# Altium footprint library MCU.PcbLib: 10 footprints
Each footprint in its own frame and in the unit in brackets; x right, y up, seen from the top. Pads: shape width x height; smd on the part's side, far side on the other; paste and mask are expansions set on the pad; w line width, h text height; cw(c..) or ccw(c..) is an arc to the next point about the centre after c.
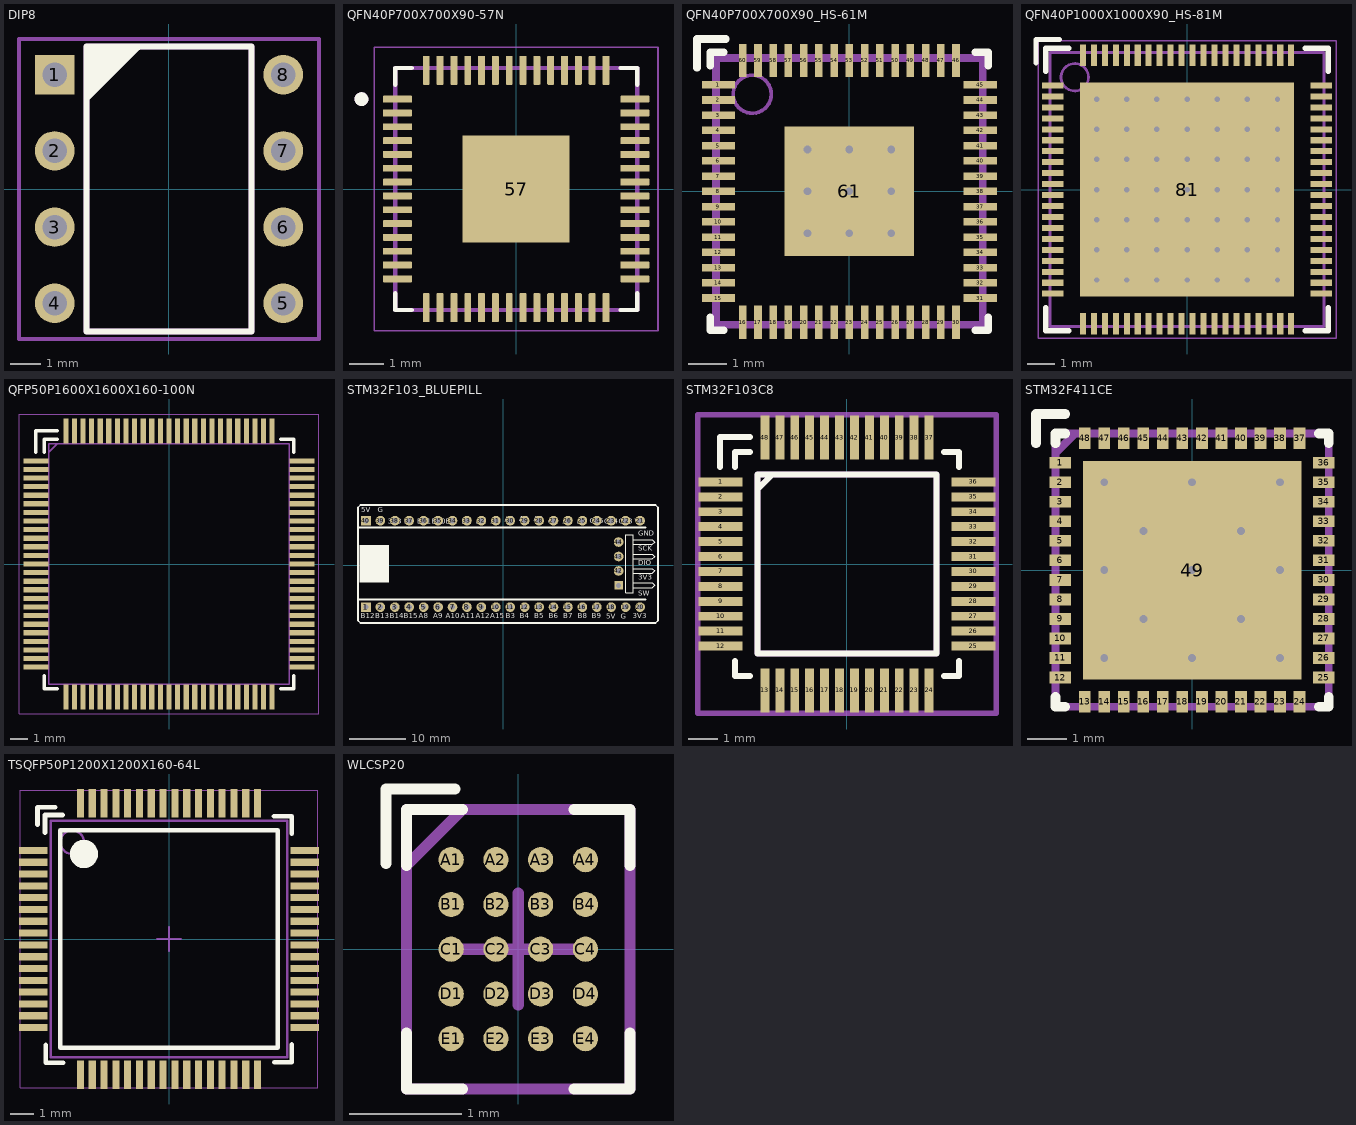
[diagram p0: the footprints below, top view; thin cyan lines are the x and y axes]

## DIP8 [mil]
pads (8):
  rect 52x52 hole 32: 1(-150,150)
  round 52 hole 32: 2(-150,50) 3(-150,-50) 4(-150,-150) 5(150,-150) 6(150,-50) 7(150,50) 8(150,150)
Top Overlay:
  lines w7.87: -108.27,118.11 -39.37,187.01 -108.27,127.95 -49.21,187.01 -108.27,137.8 -59.06,187.01 -108.27,147.64 -68.9,187.01 -108.27,157.48 ; -102.92,183.72 -107.71,173.83 -95.73,183.12 -106.52,166.64 -89.74,181.92 -108.27,157.48 ; -88.58,187.01 -108.27,167.32 -78.74,187.01 -108.27,157.48 ; -108.27,-187.01 -108.27,187.01 108.27,187.01 108.27,-187.01 -108.27,-187.01
Top Designator:
  text ".Designator" at -299.9,-19.99 h60
Mechanical 13:
  lines w7.87: -108.27,-187.01 -108.27,187.01 108.27,187.01 108.27,-187.01 -108.27,-187.01
Mechanical 15:
  lines w5: -196.85,-196.85 -196.85,196.85 196.85,196.85 196.85,-196.85 -196.85,-196.85
3D body "step_temp.STEP": height 215.61, standoff -144.39, extent -155,-182.5 155,182.5

## QFN40P700X700X90-57N [mm]
pads (57):
  rrect25% 0.84x0.2 smd mask+0.03: 1(-3.435,2.6) 2(-3.435,2.2) 3(-3.435,1.8) 4(-3.435,1.4) 5(-3.435,1) 6(-3.435,0.6) 7(-3.435,0.2) 8(-3.435,-0.2) 9(-3.435,-0.6) 10(-3.435,-1) 11(-3.435,-1.4) 12(-3.435,-1.8) 13(-3.435,-2.2) 14(-3.435,-2.6) 29(3.435,-2.6) 30(3.435,-2.2) 31(3.435,-1.8) 32(3.435,-1.4) 33(3.435,-1) 34(3.435,-0.6) 35(3.435,-0.2) 36(3.435,0.2) 37(3.435,0.6) 38(3.435,1) 39(3.435,1.4) 40(3.435,1.8) 41(3.435,2.2) 42(3.435,2.6)
  rrect25% 0.2x0.84 smd mask+0.03: 15(-2.6,-3.435) 16(-2.2,-3.435) 17(-1.8,-3.435) 18(-1.4,-3.435) 19(-1,-3.435) 20(-0.6,-3.435) 21(-0.2,-3.435) 22(0.2,-3.435) 23(0.6,-3.435) 24(1,-3.435) 25(1.4,-3.435) 26(1.8,-3.435) 27(2.2,-3.435) 28(2.6,-3.435) 43(2.6,3.435) 44(2.2,3.435) 45(1.8,3.435) 46(1.4,3.435) 47(1,3.435) 48(0.6,3.435) 49(0.2,3.435) 50(-0.2,3.435) 51(-0.6,3.435) 52(-1,3.435) 53(-1.4,3.435) 54(-1.8,3.435) 55(-2.2,3.435) 56(-2.6,3.435)
  rect 3.1x3.1 smd paste-0.57 mask+0.1: 57(0,0)
Top Overlay:
  circle w0.2: c-4.475,2.6 r0.1
  lines w0.127: -3.5,-3.02 -3.5,-3.5 -3.02,-3.5 ; -3.5,3.02 -3.5,3.5 -3.02,3.5 ; 3.02,-3.5 3.5,-3.5 3.5,-3.02 ; 3.02,3.5 3.5,3.5 3.5,3.02
Top Designator:
  text ".Designator" at -7.89,-0.508 h1.52
Mechanical 13:
  circle w0.2: c-4.475,2.6 r0.1
  lines w0.127: -3.5,-3.5 -3.5,3.5 3.5,3.5 3.5,-3.5 -3.5,-3.5
Mechanical 15:
  lines w0.05: -4.105,-4.105 -4.105,4.105 4.105,4.105 4.105,-4.105 -4.105,-4.105
3D body "step_temp.STEP": height 0.9, standoff 0, extent -3.5,-3.5 3.5,3.5

## QFN40P700X700X90_HS-61M [mm] "QFN, 60-Leads, Body 7.00x7.00mm, Pitch 0.40mm, Thermal Pad 3.40x3.40mm, IPC Low Density"
height 0.9
pads (61):
  rect 0.875x0.2 smd mask+0.05: 1(-3.437,2.8) 2(-3.437,2.4) 3(-3.437,2) 4(-3.437,1.6) 5(-3.437,1.2) 6(-3.437,0.8) 7(-3.437,0.4) 8(-3.437,0) 9(-3.437,-0.4) 10(-3.437,-0.8) 11(-3.437,-1.2) 12(-3.437,-1.6) 13(-3.437,-2) 14(-3.437,-2.4) 15(-3.437,-2.8) 31(3.438,-2.8) 32(3.438,-2.4) 33(3.438,-2) 34(3.438,-1.6) 35(3.438,-1.2) 36(3.438,-0.8) 37(3.438,-0.4) 38(3.438,0) 39(3.438,0.4) 40(3.438,0.8) 41(3.438,1.2) 42(3.438,1.6) 43(3.438,2) 44(3.438,2.4) 45(3.438,2.8)
  rect 0.2x0.875 smd mask+0.05: 16(-2.8,-3.438) 17(-2.4,-3.438) 18(-2,-3.438) 19(-1.6,-3.438) 20(-1.2,-3.438) 21(-0.8,-3.438) 22(-0.4,-3.438) 23(0,-3.438) 24(0.4,-3.438) 25(0.8,-3.438) 26(1.2,-3.438) 27(1.6,-3.438) 28(2,-3.438) 29(2.4,-3.438) 30(2.8,-3.438) 46(2.8,3.437) 47(2.4,3.437) 48(2,3.437) 49(1.6,3.437) 50(1.2,3.437) 51(0.8,3.437) 52(0.4,3.437) 53(0,3.437) 54(-0.4,3.437) 55(-0.8,3.437) 56(-1.2,3.437) 57(-1.6,3.437) 58(-2,3.437) 59(-2.4,3.437) 60(-2.8,3.437)
  rect 3.4x3.4 smd mask+0.05: 61(0,0)
via -1.1,1.1 diameter 0.5 hole 0.2
via 0,1.1 diameter 0.5 hole 0.2
via 1.1,1.1 diameter 0.5 hole 0.2
via -1.1,0 diameter 0.5 hole 0.2
via 0,0 diameter 0.5 hole 0.2
via 1.1,0 diameter 0.5 hole 0.2
via -1.1,-1.1 diameter 0.5 hole 0.2
via 0,-1.1 diameter 0.5 hole 0.2
via 1.1,-1.1 diameter 0.5 hole 0.2
Top Overlay:
  lines w0.2: -4,3.25 -4,4 -3.25,4 ; -3.65,-3.3 -3.65,-3.65 -3.3,-3.65 ; -3.65,3.3 -3.65,3.65 -3.3,3.65 ; 3.3,-3.65 3.65,-3.65 3.65,-3.3 ; 3.3,3.65 3.65,3.65 3.65,3.3
Top Designator:
  text ".Designator" at -7.705,-0.42 h1.52
Mechanical 13:
  circle w0.1: c-2.55,2.55 r0.5
  lines w0.2: -3.5,-3.5 -3.5,3.5 3.5,3.5 3.5,-3.5 -3.5,-3.5
Mechanical 15:
  lines w0.1: -0.5,0 0.5,0 ; 0,-0.5 0,0.5
  lines w0.2: -3.5,-3.5 -3.5,3.5 3.5,3.5 3.5,-3.5 -3.5,-3.5
3D body "QFN40P700X700X90_HS-61M.step": height 0.9, standoff 0, extent -3.501,-3.501 3.501,3.501

## QFN40P1000X1000X90_HS-81M [mm] "QFN, 80-Leads, Body 10.00x10.00mm, Pitch 0.40mm, Thermal Pad 7.82x7.82mm, IPC Low Density"
height 0.9
pads (81):
  rect 0.78x0.22 smd mask+0.03: 1(-4.897,3.8) 2(-4.897,3.4) 3(-4.897,3) 4(-4.897,2.6) 5(-4.897,2.2) 6(-4.897,1.8) 7(-4.897,1.4) 8(-4.897,1) 9(-4.897,0.6) 10(-4.897,0.2) 11(-4.897,-0.2) 12(-4.897,-0.6) 13(-4.897,-1) 14(-4.897,-1.4) 15(-4.897,-1.8) 16(-4.897,-2.2) 17(-4.897,-2.6) 18(-4.897,-3) 19(-4.897,-3.4) 20(-4.897,-3.8) 41(4.897,-3.8) 42(4.897,-3.4) 43(4.897,-3) 44(4.897,-2.6) 45(4.897,-2.2) 46(4.897,-1.8) 47(4.897,-1.4) 48(4.897,-1) 49(4.897,-0.6) 50(4.897,-0.2) 51(4.897,0.2) 52(4.897,0.6) 53(4.897,1) 54(4.897,1.4) 55(4.897,1.8) 56(4.897,2.2) 57(4.897,2.6) 58(4.897,3) 59(4.897,3.4) 60(4.897,3.8)
  rect 0.22x0.78 smd mask+0.03: 21(-3.8,-4.897) 22(-3.4,-4.897) 23(-3,-4.897) 24(-2.6,-4.897) 25(-2.2,-4.897) 26(-1.8,-4.897) 27(-1.4,-4.897) 28(-1,-4.897) 29(-0.6,-4.897) 30(-0.2,-4.897) 31(0.2,-4.897) 32(0.6,-4.897) 33(1,-4.897) 34(1.4,-4.897) 35(1.8,-4.897) 36(2.2,-4.897) 37(2.6,-4.897) 38(3,-4.897) 39(3.4,-4.897) 40(3.8,-4.897) 61(3.8,4.897) 62(3.4,4.897) 63(3,4.897) 64(2.6,4.897) 65(2.2,4.897) 66(1.8,4.897) 67(1.4,4.897) 68(1,4.897) 69(0.6,4.897) 70(0.2,4.897) 71(-0.2,4.897) 72(-0.6,4.897) 73(-1,4.897) 74(-1.4,4.897) 75(-1.8,4.897) 76(-2.2,4.897) 77(-2.6,4.897) 78(-3,4.897) 79(-3.4,4.897) 80(-3.8,4.897)
  rect 7.82x7.82 smd mask+0.03: 81(0,0)
via 3.3,-3.3 diameter 0.5 hole 0.2
via 2.2,-3.3 diameter 0.5 hole 0.2
via 1.1,-3.3 diameter 0.5 hole 0.2
via 0,-3.3 diameter 0.5 hole 0.2
via -1.1,-3.3 diameter 0.5 hole 0.2
via -2.2,-3.3 diameter 0.5 hole 0.2
via -3.3,-3.3 diameter 0.5 hole 0.2
via 3.3,-2.2 diameter 0.5 hole 0.2
via 2.2,-2.2 diameter 0.5 hole 0.2
via 1.1,-2.2 diameter 0.5 hole 0.2
via 0,-2.2 diameter 0.5 hole 0.2
via -1.1,-2.2 diameter 0.5 hole 0.2
via -2.2,-2.2 diameter 0.5 hole 0.2
via -3.3,-2.2 diameter 0.5 hole 0.2
via 3.3,-1.1 diameter 0.5 hole 0.2
via 2.2,-1.1 diameter 0.5 hole 0.2
via 1.1,-1.1 diameter 0.5 hole 0.2
via 0,-1.1 diameter 0.5 hole 0.2
via -1.1,-1.1 diameter 0.5 hole 0.2
via -2.2,-1.1 diameter 0.5 hole 0.2
via -3.3,-1.1 diameter 0.5 hole 0.2
via 3.3,0 diameter 0.5 hole 0.2
via 2.2,0 diameter 0.5 hole 0.2
via 1.1,0 diameter 0.5 hole 0.2
via 0,0 diameter 0.5 hole 0.2
via -1.1,0 diameter 0.5 hole 0.2
via -2.2,0 diameter 0.5 hole 0.2
via -3.3,0 diameter 0.5 hole 0.2
via 3.3,1.1 diameter 0.5 hole 0.2
via 2.2,1.1 diameter 0.5 hole 0.2
via 1.1,1.1 diameter 0.5 hole 0.2
via 0,1.1 diameter 0.5 hole 0.2
via -1.1,1.1 diameter 0.5 hole 0.2
via -2.2,1.1 diameter 0.5 hole 0.2
via -3.3,1.1 diameter 0.5 hole 0.2
via 3.3,2.2 diameter 0.5 hole 0.2
via 2.2,2.2 diameter 0.5 hole 0.2
via 1.1,2.2 diameter 0.5 hole 0.2
via 0,2.2 diameter 0.5 hole 0.2
via -1.1,2.2 diameter 0.5 hole 0.2
via -2.2,2.2 diameter 0.5 hole 0.2
via -3.3,2.2 diameter 0.5 hole 0.2
via 3.3,3.3 diameter 0.5 hole 0.2
via 2.2,3.3 diameter 0.5 hole 0.2
via 1.1,3.3 diameter 0.5 hole 0.2
via 0,3.3 diameter 0.5 hole 0.2
via -1.1,3.3 diameter 0.5 hole 0.2
via -2.2,3.3 diameter 0.5 hole 0.2
via -3.3,3.3 diameter 0.5 hole 0.2
Top Overlay:
  lines w0.2: -5.514,4.637 -5.514,5.477 -4.674,5.477 ; -5.15,-4.31 -5.15,-5.15 -4.31,-5.15 ; -5.15,4.31 -5.15,5.15 -4.31,5.15 ; 4.31,-5.15 5.15,-5.15 5.15,-4.31 ; 4.31,5.15 5.15,5.15 5.15,4.31
Top Designator:
  text ".Designator" at -7.695,-0.449 h1.52
Mechanical 13:
  circle w0.1: c-4.1,4.1 r0.5
  lines w0.1: -5,-5 5,-5 5,5 -5,5 -5,-5
Mechanical 15:
  lines w0.05: -5.435,-5.435 5.435,-5.435 5.435,5.435 -5.435,5.435 -5.435,-5.435
  lines w0.1: -0.5,0 0.5,0 ; 0,-0.5 0,0.5
3D body "QFN40P1000X1000X90_HS-81M.step": height 0.9, standoff 0, extent -5.001,-5.001 5.001,5.001

## QFP50P1600X1600X160-100N [mm]
pads (100):
  rect 1.475x0.3 smd: 1(-7.738,6) 2(-7.738,5.5) 3(-7.738,5) 4(-7.738,4.5) 5(-7.738,4) 6(-7.738,3.5) 7(-7.738,3) 8(-7.738,2.5) 9(-7.738,2) 10(-7.738,1.5) 11(-7.738,1) 12(-7.738,0.5) 13(-7.738,0) 14(-7.738,-0.5) 15(-7.738,-1) 16(-7.738,-1.5) 17(-7.738,-2) 18(-7.738,-2.5) 19(-7.738,-3) 20(-7.738,-3.5) 21(-7.738,-4) 22(-7.738,-4.5) 23(-7.738,-5) 24(-7.738,-5.5) 25(-7.738,-6) 51(7.738,-6) 52(7.738,-5.5) 53(7.738,-5) 54(7.738,-4.5) 55(7.738,-4) 56(7.738,-3.5) 57(7.738,-3) 58(7.738,-2.5) 59(7.738,-2) 60(7.738,-1.5) 61(7.738,-1) 62(7.738,-0.5) 63(7.738,0) 64(7.738,0.5) 65(7.738,1) 66(7.738,1.5) 67(7.738,2) 68(7.738,2.5) 69(7.738,3) 70(7.738,3.5) 71(7.738,4) 72(7.738,4.5) 73(7.738,5) 74(7.738,5.5) 75(7.738,6)
  rect 0.3x1.475 smd: 26(-6,-7.738) 27(-5.5,-7.738) 28(-5,-7.738) 29(-4.5,-7.738) 30(-4,-7.738) 31(-3.5,-7.738) 32(-3,-7.738) 33(-2.5,-7.738) 34(-2,-7.738) 35(-1.5,-7.738) 36(-1,-7.738) 37(-0.5,-7.738) 38(0,-7.738) 39(0.5,-7.738) 40(1,-7.738) 41(1.5,-7.738) 42(2,-7.738) 43(2.5,-7.738) 44(3,-7.738) 45(3.5,-7.738) 46(4,-7.738) 47(4.5,-7.738) 48(5,-7.738) 49(5.5,-7.738) 50(6,-7.738) 76(6,7.738) 77(5.5,7.738) 78(5,7.738) 79(4.5,7.738) 80(4,7.738) 81(3.5,7.738) 82(3,7.738) 83(2.5,7.738) 84(2,7.738) 85(1.5,7.738) 86(1,7.738) 87(0.5,7.738) 88(0,7.738) 89(-0.5,7.738) 90(-1,7.738) 91(-1.5,7.738) 92(-2,7.738) 93(-2.5,7.738) 94(-3,7.738) 95(-3.5,7.738) 96(-4,7.738) 97(-4.5,7.738) 98(-5,7.738) 99(-5.5,7.738) 100(-6,7.738)
Top Overlay:
  lines w0.2: -7.75,6.5 -7.75,7.75 -6.5,7.75 ; -7.25,-6.5 -7.25,-7.25 -6.5,-7.25 ; -7.25,6.5 -7.25,7.25 -6.5,7.25 ; 6.5,-7.25 7.25,-7.25 7.25,-6.5 ; 6.5,7.25 7.25,7.25 7.25,6.5
Top Designator:
  text ".Designator" at -7.618,-0.508 h1.52
Mechanical 13:
  lines w0.1: -7,6.5 -6.5,7 ; -7,-7 7,-7 7,7 -7,7 -7,-7
Mechanical 15:
  lines w0.05: -8.725,-8.725 8.725,-8.725 8.725,8.725 -8.725,8.725 -8.725,-8.725
3D body "STM32F407VET6.stp": height 1.6, standoff 0, extent -8,-8 8,8

## STM32F103_BLUEPILL [mm]
pads (44):
  rect 1.7x1.7 hole 0.9: 1(-24.13,-7.357) 40(-24.13,7.857)
  round 1.7 hole 0.9: 2(-21.59,-7.357) 3(-19.05,-7.357) 4(-16.51,-7.357) 5(-13.97,-7.357) 6(-11.43,-7.357) 7(-8.89,-7.357) 8(-6.35,-7.357) 9(-3.81,-7.357) 10(-1.27,-7.357) 11(1.27,-7.357) 12(3.81,-7.357) 13(6.35,-7.357) 14(8.89,-7.357) 15(11.43,-7.357) 16(13.97,-7.357) 17(16.51,-7.357) 18(19.05,-7.357) 19(21.59,-7.357) 20(24.13,-7.357) 21(24.13,7.857) 22(21.59,7.857) 23(19.05,7.857) 24(16.51,7.857) 25(13.97,7.857) 26(11.43,7.857) 27(8.89,7.857) 28(6.35,7.857) 29(3.81,7.857) 30(1.27,7.857) 31(-1.27,7.857) 32(-3.81,7.857) 33(-6.35,7.857) 34(-8.89,7.857) 35(-11.43,7.857) 36(-13.97,7.857) 37(-16.51,7.857) 38(-19.05,7.857) 39(-21.59,7.857) 42(20.345,-0.982) 43(20.345,1.558) 44(20.345,4.098)
  rect 1.5x1.5 hole 0.9: 41(20.345,-3.522)
Top Overlay:
  rectangle: -25.273,-3.039 -20.066,3.59
  lines w0.2: 22.885,-3.945 26.272,-3.945 26.695,-3.522 26.272,-3.099 22.885,-3.099 ; 22.885,-1.405 26.272,-1.405 26.695,-0.982 26.272,-0.559 22.885,-0.559 ; 22.885,1.135 26.272,1.135 26.695,1.558 26.272,1.981 22.885,1.981 ; 22.885,3.675 26.272,3.675 26.695,4.098 26.272,4.521 22.885,4.521 ; 21.615,-4.792 21.615,5.368 22.885,5.368 22.885,-4.792 21.615,-4.792
  lines w0.3: -25.451,-6.024 25.121,-6.024 ; -25.451,6.676 25.146,6.676
  lines w0.305: -25.527,-9.72 -25.527,10.194 -25.094,10.627 26.846,10.627 27.28,10.194 27.28,-9.72 26.848,-10.151 -25.095,-10.151 -25.527,-9.72
  text "5V" at -24.93,9.013 h1.52
  text "A7" at -4.737,6.956 h1.52
  text "A3" at 5.423,7.387 h1.52
  text "G" at -22.085,9.013 h1.52
  text "B0" at -7.277,6.956 h1.52
  text "C14" at 17.818,6.956 h1.52
  text "A1" at 10.503,6.956 h1.52
  text "C13" at 20.333,6.956 h1.52
  text "A5" at 0.343,7.337 h1.52
  text "A2" at 7.963,7.184 h1.52
  text "3V3" at -20.256,6.956 h1.52
  text "A0" at 13.043,6.956 h1.52
  text "A4" at 2.883,7.438 h1.52
  text "B1" at -10.046,6.956 h1.52
  text "R" at -17.412,6.956 h1.52
  text "B11" at -15.126,6.956 h1.52
  text "A6" at -2.197,6.956 h1.52
  text "VB" at 23.203,6.956 h1.52
  text "B10" at -12.586,6.956 h1.52
  text "C15" at 15.278,7.057 h1.52
  text "DIO" at 23.774,-0.33 h1.52
  text "GND" at 23.774,4.86 h1.52
  text "SCK" at 23.774,2.202 h1.52
  text "3V3" at 23.774,-2.887 h1.52
  text "SW" at 23.774,-5.706 h1.52
  text "A8" at -14.821,-9.699 h1.52
  text "B7" at 10.579,-9.678 h1.52
  text "B13" at -22.517,-9.699 h1.52
  text "A10" at -10.096,-9.699 h1.52
  text "A11" at -7.429,-9.681 h1.52
  text "B9" at 15.659,-9.699 h1.52
  text "B14" at -19.977,-9.681 h1.52
  text "A12" at -4.839,-9.681 h1.52
  text "B12" at -25.057,-9.681 h1.52
  text "B6" at 8.039,-9.699 h1.52
  text "B4" at 2.959,-9.681 h1.52
  text "G" at 20.739,-9.713 h1.52
  text "A9" at -12.281,-9.699 h1.52
  text "B3" at 0.445,-9.699 h1.52
  text "3V3" at 22.847,-9.699 h1.52
  text "A15" at -2.248,-9.699 h1.52
  text "B5" at 5.499,-9.696 h1.52
  text "B8" at 13.119,-9.699 h1.52
  text "5V" at 18.199,-9.722 h1.52
  text "B15" at -17.437,-9.699 h1.52
Bottom Overlay:
  lines w0.2: -25.4,-9.694 -25.4,-6.087 -23.495,-6.087 25.4,-6.087 25.4,-10.024 ; -25.4,10.296 -25.4,6.587 25.4,6.587 25.4,10.524
Top Designator:
  text ".Designator" at -6.418,-0.238 h1.52
3D body "STM32F103C8T6_Blue_Pill v6.step": height 12.77, standoff -5.5, extent -27.58,-11.16 29.98,11.7

## STM32F103C8 [mm]
pads (48):
  rect 1.475x0.3 smd mask-2539.97: 1(-4.238,2.75) 2(-4.238,2.25) 3(-4.238,1.75) 4(-4.238,1.25) 5(-4.238,0.75) 6(-4.238,0.25) 7(-4.238,-0.25) 8(-4.238,-0.75) 9(-4.238,-1.25) 10(-4.238,-1.75) 11(-4.238,-2.25) 12(-4.238,-2.75) 25(4.238,-2.75) 26(4.238,-2.25) 27(4.238,-1.75) 28(4.238,-1.25) 29(4.238,-0.75) 30(4.238,-0.25) 31(4.238,0.25) 32(4.238,0.75) 33(4.238,1.25) 34(4.238,1.75) 35(4.238,2.25) 36(4.238,2.75)
  rect 0.3x1.475 smd mask-2539.97: 13(-2.75,-4.238) 14(-2.25,-4.238) 15(-1.75,-4.238) 16(-1.25,-4.238) 17(-0.75,-4.238) 18(-0.25,-4.238) 19(0.25,-4.238) 20(0.75,-4.238) 21(1.25,-4.238) 22(1.75,-4.238) 23(2.25,-4.238) 24(2.75,-4.238) 37(2.75,4.238) 38(2.25,4.238) 39(1.75,4.238) 40(1.25,4.238) 41(0.75,4.238) 42(0.25,4.238) 43(-0.25,4.238) 44(-0.75,4.238) 45(-1.25,4.238) 46(-1.75,4.238) 47(-2.25,4.238) 48(-2.75,4.238)
Top Overlay:
  lines w0.2: -4.25,3.25 -4.25,4.25 -3.25,4.25 ; -3.75,-3.25 -3.75,-3.75 -3.25,-3.75 ; -3.75,3.25 -3.75,3.5 -3.75,3.75 -3.25,3.75 ; -3,2.5 -2.5,3 ; 3.25,-3.75 3.75,-3.75 3.75,-3.25 ; 3.25,3.75 3.75,3.75 3.75,3.25 ; -3,-3 -3,3 3,3 3,-3 -3,-3
Top Solder:
  drawing of 48 lines, arcs and shapes, not listed
Top Designator:
  text ".Designator" at -7.618,-0.508 h1.52
Mechanical 13:
  lines w0.2: -3,2.5 -2.5,3 ; -3,-3 -3,3 3,3 3,-3 -3,-3
Mechanical 15:
  lines w0.2: -5,-5 -5,5 5,5 5,-5 -5,-5
3D body "STM32F103C8T6XXX.stp": height 1.6, standoff 0, extent -4.5,-4.5 4.5,4.5

## STM32F411CE [mm] "-40?~+85? 1.7V~3.6V 100MHz 128KB 12bit 32 Bit 36 512KB ARM Cortex-M4 Built-in FLASH UFQFPN-48(7x7) Microcontrollers (MCU/MPU/SOC) ROHS"
pads (49):
  rect 0.55x0.3 smd mask-2539.97: 1(-3.375,2.75) 2(-3.375,2.25) 3(-3.375,1.75) 4(-3.375,1.25) 5(-3.375,0.75) 6(-3.375,0.25) 7(-3.375,-0.25) 8(-3.375,-0.75) 9(-3.375,-1.25) 10(-3.375,-1.75) 11(-3.375,-2.25) 12(-3.375,-2.75) 25(3.375,-2.75) 26(3.375,-2.25) 27(3.375,-1.75) 28(3.375,-1.25) 29(3.375,-0.75) 30(3.375,-0.25) 31(3.375,0.25) 32(3.375,0.75) 33(3.375,1.25) 34(3.375,1.75) 35(3.375,2.25) 36(3.375,2.75)
  rect 0.3x0.55 smd mask-2539.97: 13(-2.75,-3.375) 14(-2.25,-3.375) 15(-1.75,-3.375) 16(-1.25,-3.375) 17(-0.75,-3.375) 18(-0.25,-3.375) 19(0.25,-3.375) 20(0.75,-3.375) 21(1.25,-3.375) 22(1.75,-3.375) 23(2.25,-3.375) 24(2.75,-3.375) 37(2.75,3.375) 38(2.25,3.375) 39(1.75,3.375) 40(1.25,3.375) 41(0.75,3.375) 42(0.25,3.375) 43(-0.25,3.375) 44(-0.75,3.375) 45(-1.25,3.375) 46(-1.75,3.375) 47(-2.25,3.375) 48(-2.75,3.375)
  rect 5.6x5.6 smd mask-2539.97: 49(0,0)
via 1.25,-1.25 diameter 0.5 hole 0.2
via -1.25,-1.25 diameter 0.5 hole 0.2
via -1.25,1 diameter 0.5 hole 0.2
via 1.25,1 diameter 0.5 hole 0.2
via 0,2.25 diameter 0.5 hole 0.2
via -2.25,0 diameter 0.5 hole 0.2
via 2.25,0 diameter 0.5 hole 0.2
via 0,-2.25 diameter 0.5 hole 0.2
via 2.25,-2.25 diameter 0.5 hole 0.2
via -2.25,-2.25 diameter 0.5 hole 0.2
via -2.25,2.25 diameter 0.5 hole 0.2
via 2.25,2.25 diameter 0.5 hole 0.2
via 0,0 diameter 0.5 hole 0.2
Top Overlay:
  lines w0.254: -4,3.25 -4,4 -3.25,4 ; -3.5,-3.25 -3.5,-3.5 -3.25,-3.5 ; -3.5,3.25 -3.5,3.5 -3.25,3.5 ; 3.25,-3.5 3.5,-3.5 3.5,-3.25 ; 3.25,3.5 3.5,3.5 3.5,3.25
Top Solder:
  drawing of 49 lines, arcs and shapes, not listed
Top Designator:
  text ".Designator" at -7.856,-0.269 h1.52
Mechanical 13:
  lines w0.2: -3.5,3 -3,3.5 ; -3.5,-3.5 -3.5,3.5 3.5,3.5 3.5,-3.5 -3.5,-3.5
Mechanical 15:
  lines w0.2: -3.5,-3.5 -3.5,3.5 3.5,3.5 3.5,-3.5 -3.5,-3.5
3D body "STM32F411CEU6.stp": height 0.6, standoff 0, extent -3.55,-3.55 3.55,3.55

## TSQFP50P1200X1200X160-64L [mm] "TSQFP, 64-Leads, Body 10.00x10.00mm, Pitch 0.50mm, IPC High Density"
height 1.6
pads (64):
  rect 1.2x0.3 smd mask+0.05: 1(-5.75,3.75) 2(-5.75,3.25) 3(-5.75,2.75) 4(-5.75,2.25) 5(-5.75,1.75) 6(-5.75,1.25) 7(-5.75,0.75) 8(-5.75,0.25) 9(-5.75,-0.25) 10(-5.75,-0.75) 11(-5.75,-1.25) 12(-5.75,-1.75) 13(-5.75,-2.25) 14(-5.75,-2.75) 15(-5.75,-3.25) 16(-5.75,-3.75) 33(5.75,-3.75) 34(5.75,-3.25) 35(5.75,-2.75) 36(5.75,-2.25) 37(5.75,-1.75) 38(5.75,-1.25) 39(5.75,-0.75) 40(5.75,-0.25) 41(5.75,0.25) 42(5.75,0.75) 43(5.75,1.25) 44(5.75,1.75) 45(5.75,2.25) 46(5.75,2.75) 47(5.75,3.25) 48(5.75,3.75)
  rect 0.3x1.2 smd mask+0.05: 17(-3.75,-5.75) 18(-3.25,-5.75) 19(-2.75,-5.75) 20(-2.25,-5.75) 21(-1.75,-5.75) 22(-1.25,-5.75) 23(-0.75,-5.75) 24(-0.25,-5.75) 25(0.25,-5.75) 26(0.75,-5.75) 27(1.25,-5.75) 28(1.75,-5.75) 29(2.25,-5.75) 30(2.75,-5.75) 31(3.25,-5.75) 32(3.75,-5.75) 49(3.75,5.75) 50(3.25,5.75) 51(2.75,5.75) 52(2.25,5.75) 53(1.75,5.75) 54(1.25,5.75) 55(0.75,5.75) 56(0.25,5.75) 57(-0.25,5.75) 58(-0.75,5.75) 59(-1.25,5.75) 60(-1.75,5.75) 61(-2.25,5.75) 62(-2.75,5.75) 63(-3.25,5.75) 64(-3.75,5.75)
Top Overlay:
  circle w0.6: c-3.6,3.6 r0.3
  lines w0.2: -5.564,4.833 -5.564,5.583 -4.814,5.583 ; -5.25,4.5 -5.25,5.25 -4.5,5.25 ; -5.222,-4.488 -5.222,-5.238 -4.472,-5.238 ; 4.441,5.202 5.191,5.202 5.191,4.452 ; 4.452,-5.212 5.202,-5.212 5.202,-4.462 ; -4.6,-4.6 4.6,-4.6 4.6,4.6 -4.6,4.6 -4.6,-4.6
Top Designator:
  text ".Designator" at -9.059,6.746 h0.76
Mechanical 13:
  circle w0.1: c-4.1,4.1 r0.5
  lines w0.1: -5,-5 5,-5 5,5 -5,5 -5,-5
Mechanical 15:
  lines w0.05: -6.3,-6.3 6.3,-6.3 6.3,6.3 -6.3,6.3 -6.3,-6.3
  lines w0.1: -0.5,0 0.5,0 ; 0,-0.5 0,0.5
3D body "TSQFP50P1200X1200X160-64L.step": height 1.6, standoff 0, extent -6,-6 6,6

## WLCSP20 [mm] "WLCSP20 is a 20-ball, 1.94 x 2.40 mm, 0.4 mm pitch, wafer-level chip-scale package."
pads (20):
  round 0.225 smd mask-2539.97: A1(-0.6,0.8) A2(-0.2,0.8) A3(0.2,0.8) A4(0.6,0.8) B1(-0.6,0.4) B2(-0.2,0.4) B3(0.2,0.4) B4(0.6,0.4) C1(-0.6,0) C2(-0.2,0) C3(0.2,0) C4(0.6,0) D1(-0.6,-0.4) D2(-0.2,-0.4) D3(0.2,-0.4) D4(0.6,-0.4) E1(-0.6,-0.8) E2(-0.2,-0.8) E3(0.2,-0.8) E4(0.6,-0.8)
Top Overlay:
  lines w0.1: -1.184,0.768 -1.184,1.432 -0.568,1.432 ; -1,-0.75 -1,-1.25 -0.5,-1.25 ; -1,0.75 -1,1.25 -0.5,1.25 ; 0.5,-1.25 1,-1.25 1,-0.75 ; 0.5,1.25 1,1.25 1,0.75
Top Solder:
  circle w0.145: c0.6,-0.8 r0.072
  circle w0.145: c0.2,-0.8 r0.072
  circle w0.145: c-0.2,-0.8 r0.072
  circle w0.145: c-0.6,-0.8 r0.072
  circle w0.145: c0.6,-0.4 r0.072
  circle w0.145: c0.2,-0.4 r0.072
  circle w0.145: c-0.2,-0.4 r0.072
  circle w0.145: c-0.6,-0.4 r0.072
  circle w0.145: c0.6,0 r0.072
  circle w0.145: c0.2,0 r0.072
  circle w0.145: c-0.2,0 r0.072
  circle w0.145: c-0.6,0 r0.072
  circle w0.145: c0.6,0.4 r0.072
  circle w0.145: c0.2,0.4 r0.072
  circle w0.145: c-0.2,0.4 r0.072
  circle w0.145: c-0.6,0.4 r0.072
  circle w0.145: c0.6,0.8 r0.072
  circle w0.145: c0.2,0.8 r0.072
  circle w0.145: c-0.2,0.8 r0.072
  circle w0.145: c-0.6,0.8 r0.072
Top Designator:
  text ".Designator" at -7.709,-0.417 h1.52
Mechanical 13:
  lines w0.1: -1,0.75 -0.5,1.25 ; -1,-1.25 1,-1.25 1,1.25 -1,1.25 -1,-1.25
Mechanical 15:
  lines w0.1: -0.5,0 0.5,0 ; 0,-0.5 0,0.5 ; -1,-1.25 1,-1.25 1,1.25 -1,1.25 -1,-1.25
3D body "BGA20C40P4X5_194X240X59.step": height 0.59, standoff 0, extent -0.97,-1.2 0.97,1.2